# Altium integrated library Resistors.IntLib: 4954 symbols (part 23 of 32)
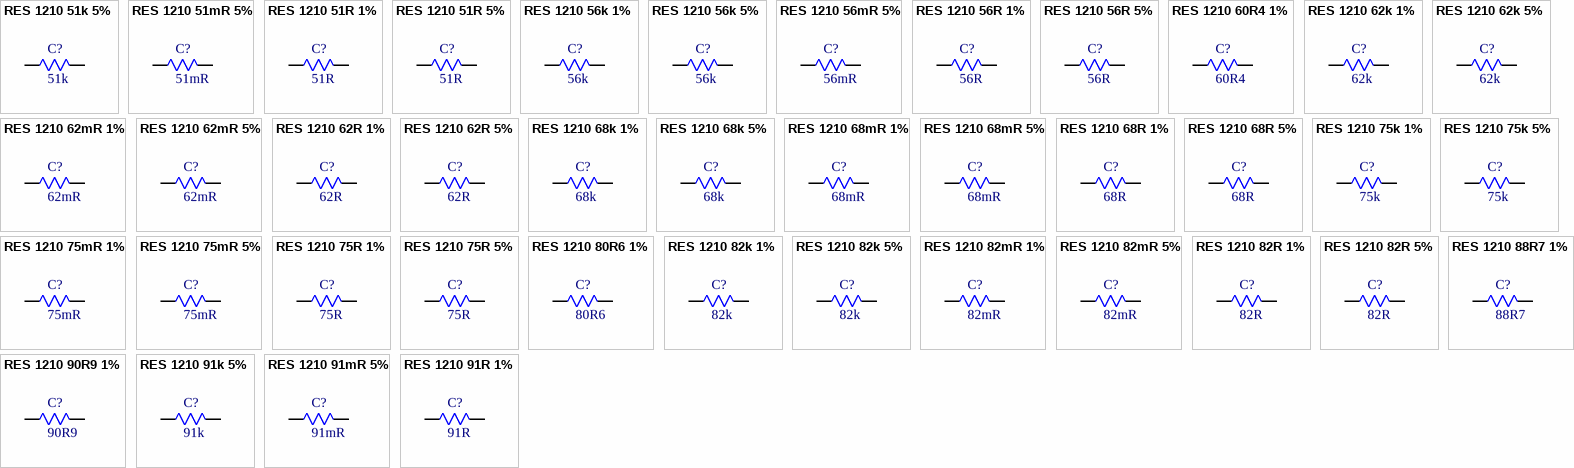
[diagram p145: symbols RES 1210 51k 5% to RES 1210 91R 1%]

## RES 1210 91mR 5%
designator C?, comment 91mR
91mR 5% 500mW 1210 Thick Film Resistor; Manufacturer: FOJAN; Manufacturer Part Number: FRL1210JR091TS; Voltage Rating: 500V; Supplier: LCSC; Supplier Part Number: C3013359; Resistance: 91mR; Tolerance: 5%; Power: 500mW
footprint RES SMD 1210
pins: 1, 2

## RES 1210 91R 1%
designator C?, comment 91R
500mW 91R 200V Thick Film Resistor 1% 100ppm/â„ƒ 1210 Chip Resistor - Surface Mount RoHS; Manufacturer: FOJAN; Manufacturer Part Number: FRC1210F91R0TS; Supplier: LCSC; Supplier Part Number: C7467474; Resistance: 91R; Tolerance: 1%; Voltage Rating: 200V; Power: 500mW
footprint RES SMD 1210
pins: 1, 2

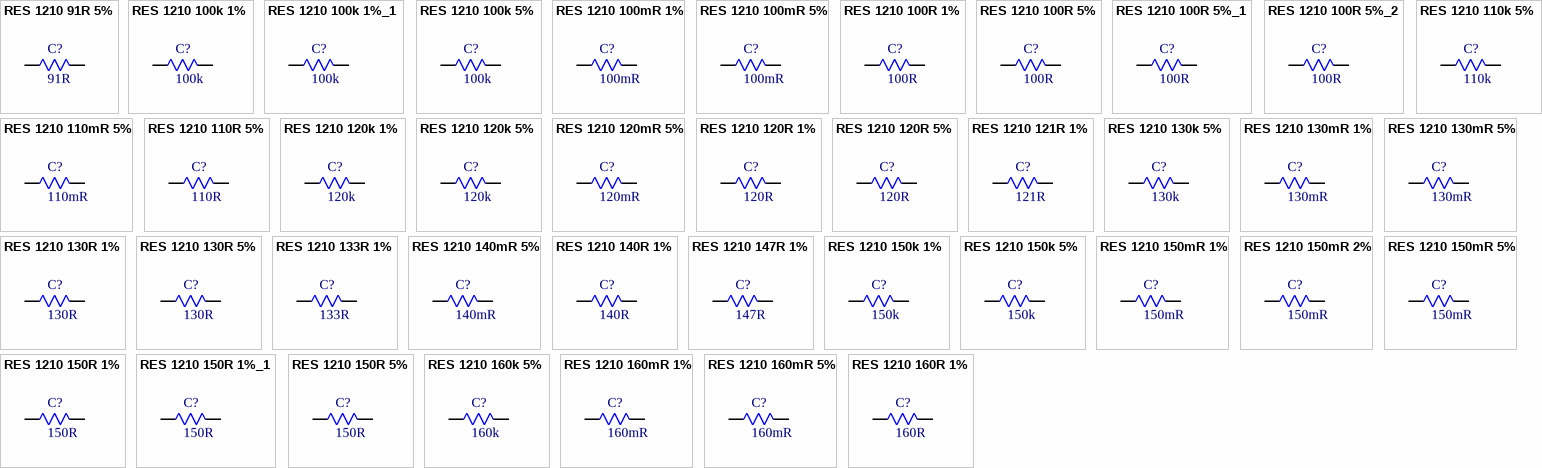
[diagram p88: symbols RES 1210 91R 5% to RES 1210 160R 1%]

## RES 1210 91R 5%
designator C?, comment 91R
91R 5% 500mW 1210 Thick Film Resistor; Manufacturer: FOJAN; Manufacturer Part Number: FRC1210J910TS; Voltage Rating: 200V; Supplier: LCSC; Supplier Part Number: C3000567; Resistance: 91R; Tolerance: 5%; Power: 500mW
footprint RES SMD 1210
pins: 1, 2

## RES 1210 100k 1%
designator C?, comment 100k
100kR 1% 500mW 1210 Thick Film Resistor; Manufacturer: FOJAN; Manufacturer Part Number: FRC1210F1003TS; Voltage Rating: 200V; Supplier: LCSC; Supplier Part Number: C2933800; Resistance: 100k; Tolerance: 1%; Power: 500mW
footprint RES SMD 1210
pins: 1, 2

## RES 1210 100k 1%_1
designator C?, comment 100k
500mW 100kR 200V Thick Film Resistor 100ppm/â„ƒ 1% 1210 Chip Resistor - Surface Mount RoHS; Manufacturer: FOJAN; Manufacturer Part Number: FRR1210F1003TS; Supplier: LCSC; Supplier Part Number: C49196856; Resistance: 100k; Tolerance: 1%; Voltage Rating: 200V; Power: 500mW
footprint RES SMD 1210
pins: 1, 2

## RES 1210 100k 5%
designator C?, comment 100k
100kR 5% 500mW 1210 Thick Film Resistor; Manufacturer: FOJAN; Manufacturer Part Number: FRC1210J104 TS; Voltage Rating: 200V; Supplier: LCSC; Supplier Part Number: C2933828; Resistance: 100k; Tolerance: 5%; Power: 500mW
footprint RES SMD 1210
pins: 1, 2

## RES 1210 100mR 1%
designator C?, comment 100mR
100mR 1% 500mW 1210 Thick Film Resistor; Manufacturer: FOJAN; Manufacturer Part Number: FRL1210FR100TS; Voltage Rating: 500V; Supplier: LCSC; Supplier Part Number: C2974119; Resistance: 100mR; Tolerance: 1%; Power: 500mW
footprint RES SMD 1210
pins: 1, 2

## RES 1210 100mR 5%
designator C?, comment 100mR
100mR 5% 500mW 1210 Thick Film Resistor; Manufacturer: FOJAN; Manufacturer Part Number: FRL1210JR100TS; Voltage Rating: 500V; Supplier: LCSC; Supplier Part Number: C2960697; Resistance: 100mR; Tolerance: 5%; Power: 500mW
footprint RES SMD 1210
pins: 1, 2

## RES 1210 100R 1%
designator C?, comment 100R
100R 1% 500mW 1210 Thick Film Resistor; Manufacturer: FOJAN; Manufacturer Part Number: FRC1210F1000TS; Voltage Rating: 200V; Supplier: LCSC; Supplier Part Number: C2933799; Resistance: 100R; Tolerance: 1%; Power: 500mW
footprint RES SMD 1210
pins: 1, 2

## RES 1210 100R 5%
designator C?, comment 100R
100R 5% 500mW 1210 Thick Film Resistor; Manufacturer: FOJAN; Manufacturer Part Number: FRC1210J101 TS; Voltage Rating: 200V; Supplier: LCSC; Supplier Part Number: C2933827; Resistance: 100R; Tolerance: 5%; Power: 500mW
footprint RES SMD 1210
pins: 1, 2

## RES 1210 100R 5%_1
designator C?, comment 100R
750mW 100R Thick Film Resistor 200ppm/â„ƒ 5% 1210 Chip Resistor - Surface Mount RoHS; Manufacturer: FOJAN; Manufacturer Part Number: FPS1210J101 TS; Supplier: LCSC; Supplier Part Number: C3013391; Resistance: 100R; Tolerance: 5%; Power: 750mW
footprint RES SMD 1210
pins: 1, 2

## RES 1210 100R 5%_2
designator C?, comment 100R
500mW 100R 200V Thick Film Resistor 5% 100ppm/â„ƒ 1210 Chip Resistor - Surface Mount RoHS; Manufacturer: FOJAN; Manufacturer Part Number: FRQ1210J101 TS; Supplier: LCSC; Supplier Part Number: C7471237; Resistance: 100R; Tolerance: 5%; Voltage Rating: 200V; Power: 500mW
footprint RES SMD 1210
pins: 1, 2

## RES 1210 110k 5%
designator C?, comment 110k
110kR 5% 500mW 1210 Thick Film Resistor; Manufacturer: FOJAN; Manufacturer Part Number: FRC1210J114 TS; Voltage Rating: 200V; Supplier: LCSC; Supplier Part Number: C2933832; Resistance: 110k; Tolerance: 5%; Power: 500mW
footprint RES SMD 1210
pins: 1, 2

## RES 1210 110mR 5%
designator C?, comment 110mR
110mR 5% 500mW 1210 Thick Film Resistor; Manufacturer: FOJAN; Manufacturer Part Number: FRL1210JR110TS; Voltage Rating: 500V; Supplier: LCSC; Supplier Part Number: C3000678; Resistance: 110mR; Tolerance: 5%; Power: 500mW
footprint RES SMD 1210
pins: 1, 2

## RES 1210 110R 5%
designator C?, comment 110R
110R 5% 500mW 1210 Thick Film Resistor; Manufacturer: FOJAN; Manufacturer Part Number: FRC1210J111 TS; Voltage Rating: 200V; Supplier: LCSC; Supplier Part Number: C2933830; Resistance: 110R; Tolerance: 5%; Power: 500mW
footprint RES SMD 1210
pins: 1, 2

## RES 1210 120k 1%
designator C?, comment 120k
120kR 1% 500mW 1210 Thick Film Resistor; Manufacturer: FOJAN; Manufacturer Part Number: FRC1210F1203TS; Voltage Rating: 200V; Supplier: LCSC; Supplier Part Number: C5126234; Resistance: 120k; Tolerance: 1%; Power: 500mW
footprint RES SMD 1210
pins: 1, 2

## RES 1210 120k 5%
designator C?, comment 120k
120kR 5% 500mW 1210 Thick Film Resistor; Manufacturer: FOJAN; Manufacturer Part Number: FRC1210J124TS; Voltage Rating: 200V; Supplier: LCSC; Supplier Part Number: C3000702; Resistance: 120k; Tolerance: 5%; Power: 500mW
footprint RES SMD 1210
pins: 1, 2

## RES 1210 120mR 5%
designator C?, comment 120mR
120mR 5% 500mW 1210 Thick Film Resistor; Manufacturer: FOJAN; Manufacturer Part Number: FRL1210JR120TS; Voltage Rating: 500V; Supplier: LCSC; Supplier Part Number: C2934323; Resistance: 120mR; Tolerance: 5%; Power: 500mW
footprint RES SMD 1210
pins: 1, 2

## RES 1210 120R 1%
designator C?, comment 120R
120R 1% 500mW 1210 Thick Film Resistor; Manufacturer: FOJAN; Manufacturer Part Number: FRC1210F1200TS; Voltage Rating: 200V; Supplier: LCSC; Supplier Part Number: C2974062; Resistance: 120R; Tolerance: 1%; Power: 500mW
footprint RES SMD 1210
pins: 1, 2

## RES 1210 120R 5%
designator C?, comment 120R
120R 5% 500mW 1210 Thick Film Resistor; Manufacturer: FOJAN; Manufacturer Part Number: FRC1210J121 TS; Voltage Rating: 200V; Supplier: LCSC; Supplier Part Number: C2933833; Resistance: 120R; Tolerance: 5%; Power: 500mW
footprint RES SMD 1210
pins: 1, 2

## RES 1210 121R 1%
designator C?, comment 121R
500mW 121R 200V Thick Film Resistor 100ppm/â„ƒ 1% 1210 Chip Resistor - Surface Mount RoHS; Manufacturer: FOJAN; Manufacturer Part Number: FRC1210F1210TS; Supplier: LCSC; Supplier Part Number: C48533789; Resistance: 121R; Tolerance: 1%; Voltage Rating: 200V; Power: 500mW
footprint RES SMD 1210
pins: 1, 2

## RES 1210 130k 5%
designator C?, comment 130k
130kR 5% 500mW 1210 Thick Film Resistor; Manufacturer: FOJAN; Manufacturer Part Number: FRC1210J134TS; Voltage Rating: 200V; Supplier: LCSC; Supplier Part Number: C3000633; Resistance: 130k; Tolerance: 5%; Power: 500mW
footprint RES SMD 1210
pins: 1, 2

## RES 1210 130mR 1%
designator C?, comment 130mR
130mR 1% 500mW 1210 Thick Film Resistor; Manufacturer: FOJAN; Manufacturer Part Number: FRL1210FR130TS; Voltage Rating: 500V; Supplier: LCSC; Supplier Part Number: C2999577; Resistance: 130mR; Tolerance: 1%; Power: 500mW
footprint RES SMD 1210
pins: 1, 2

## RES 1210 130mR 5%
designator C?, comment 130mR
130mR 5% 500mW 1210 Thick Film Resistor; Manufacturer: FOJAN; Manufacturer Part Number: FRL1210JR130TS; Voltage Rating: 500V; Supplier: LCSC; Supplier Part Number: C2934324; Resistance: 130mR; Tolerance: 5%; Power: 500mW
footprint RES SMD 1210
pins: 1, 2

## RES 1210 130R 1%
designator C?, comment 130R
130R 1% 1210 Chip Resistor - Surface Mount RoHS; Manufacturer: FOJAN; Manufacturer Part Number: FRC1210F1300TS; Supplier: LCSC; Supplier Part Number: C19268618; Resistance: 130R; Tolerance: 1%
footprint RES SMD 1210
pins: 1, 2

## RES 1210 130R 5%
designator C?, comment 130R
130R 5% 500mW 1210 Thick Film Resistor; Manufacturer: FOJAN; Manufacturer Part Number: FRC1210J131 TS; Voltage Rating: 200V; Supplier: LCSC; Supplier Part Number: C2933835; Resistance: 130R; Tolerance: 5%; Power: 500mW
footprint RES SMD 1210
pins: 1, 2

## RES 1210 133R 1%
designator C?, comment 133R
133R 500mW 200V Thick Film Resistor 100ppm/â„ƒ 1% 1210 Chip Resistor - Surface Mount RoHS; Manufacturer: FOJAN; Manufacturer Part Number: FRC1210F1330TS; Supplier: LCSC; Supplier Part Number: C48533799; Resistance: 133R; Tolerance: 1%; Voltage Rating: 200V; Power: 500mW
footprint RES SMD 1210
pins: 1, 2

## RES 1210 140mR 5%
designator C?, comment 140mR
140mR 5% 500mW 1210 Thick Film Resistor; Manufacturer: FOJAN; Manufacturer Part Number: FRL1210JR140TS; Voltage Rating: 500V; Supplier: LCSC; Supplier Part Number: C5713400; Resistance: 140mR; Tolerance: 5%; Power: 500mW
footprint RES SMD 1210
pins: 1, 2

## RES 1210 140R 1%
designator C?, comment 140R
140R 1% 500mW 1210 Thick Film Resistor; Manufacturer: FOJAN; Manufacturer Part Number: FRC1210F1400TS; Voltage Rating: 200V; Supplier: LCSC; Supplier Part Number: C2933804; Resistance: 140R; Tolerance: 1%; Power: 500mW
footprint RES SMD 1210
pins: 1, 2

## RES 1210 147R 1%
designator C?, comment 147R
500mW 147R 200V Thick Film Resistor 100ppm/â„ƒ 1% 1210 Chip Resistor - Surface Mount RoHS; Manufacturer: FOJAN; Manufacturer Part Number: FRC1210F1470TS; Supplier: LCSC; Supplier Part Number: C49010132; Resistance: 147R; Tolerance: 1%; Voltage Rating: 200V; Power: 500mW
footprint RES SMD 1210
pins: 1, 2

## RES 1210 150k 1%
designator C?, comment 150k
150kR 1% 500mW 1210 Thick Film Resistor; Manufacturer: FOJAN; Manufacturer Part Number: FRC1210F1503TS; Voltage Rating: 200V; Supplier: LCSC; Supplier Part Number: C5713334; Resistance: 150k; Tolerance: 1%; Power: 500mW
footprint RES SMD 1210
pins: 1, 2

## RES 1210 150k 5%
designator C?, comment 150k
150kR 5% 500mW 1210 Thick Film Resistor; Manufacturer: FOJAN; Manufacturer Part Number: FRC1210J154TS; Voltage Rating: 200V; Supplier: LCSC; Supplier Part Number: C3000689; Resistance: 150k; Tolerance: 5%; Power: 500mW
footprint RES SMD 1210
pins: 1, 2

## RES 1210 150mR 1%
designator C?, comment 150mR
150mR 1% 500mW 1210 Thick Film Resistor; Manufacturer: FOJAN; Manufacturer Part Number: FRL1210FR150TS; Voltage Rating: 500V; Supplier: LCSC; Supplier Part Number: C2934310; Resistance: 150mR; Tolerance: 1%; Power: 500mW
footprint RES SMD 1210
pins: 1, 2

## RES 1210 150mR 2%
designator C?, comment 150mR
500mW 150mR Thick Film Resistor 600ppm/â„ƒ 2% 1210 Chip Resistor - Surface Mount RoHS; Manufacturer: FOJAN; Manufacturer Part Number: FRL1210GR150TS; Supplier: LCSC; Supplier Part Number: C7467356; Resistance: 150mR; Tolerance: 2%; Power: 500mW
footprint RES SMD 1210
pins: 1, 2

## RES 1210 150mR 5%
designator C?, comment 150mR
150mR 5% 500mW 1210 Thick Film Resistor; Manufacturer: FOJAN; Manufacturer Part Number: FRL1210JR150TS; Voltage Rating: 500V; Supplier: LCSC; Supplier Part Number: C2934325; Resistance: 150mR; Tolerance: 5%; Power: 500mW
footprint RES SMD 1210
pins: 1, 2

## RES 1210 150R 1%
designator C?, comment 150R
150R 1% 500mW 1210 Thick Film Resistor; Manufacturer: FOJAN; Manufacturer Part Number: FRC1210F1500TS; Voltage Rating: 200V; Supplier: LCSC; Supplier Part Number: C2933805; Resistance: 150R; Tolerance: 1%; Power: 500mW
footprint RES SMD 1210
pins: 1, 2

## RES 1210 150R 1%_1
designator C?, comment 150R
500mW 150R 200V Thick Film Resistor 100ppm/â„ƒ 1% 1210 Chip Resistor - Surface Mount RoHS; Manufacturer: FOJAN; Manufacturer Part Number: FRQ1210F1500TS; Supplier: LCSC; Supplier Part Number: C5126153; Resistance: 150R; Tolerance: 1%; Voltage Rating: 200V; Power: 500mW
footprint RES SMD 1210
pins: 1, 2

## RES 1210 150R 5%
designator C?, comment 150R
150R 5% 500mW 1210 Thick Film Resistor; Manufacturer: FOJAN; Manufacturer Part Number: FRC1210J151TS; Voltage Rating: 200V; Supplier: LCSC; Supplier Part Number: C3000604; Resistance: 150R; Tolerance: 5%; Power: 500mW
footprint RES SMD 1210
pins: 1, 2

## RES 1210 160k 5%
designator C?, comment 160k
160kR 5% 500mW 1210 Thick Film Resistor; Manufacturer: FOJAN; Manufacturer Part Number: FRC1210J164 TS; Voltage Rating: 200V; Supplier: LCSC; Supplier Part Number: C2960670; Resistance: 160k; Tolerance: 5%; Power: 500mW
footprint RES SMD 1210
pins: 1, 2

## RES 1210 160mR 1%
designator C?, comment 160mR
160mR 1% 500mW 1210 Thick Film Resistor; Manufacturer: FOJAN; Manufacturer Part Number: FRL1210FR160TS; Voltage Rating: 500V; Supplier: LCSC; Supplier Part Number: C2934311; Resistance: 160mR; Tolerance: 1%; Power: 500mW
footprint RES SMD 1210
pins: 1, 2

## RES 1210 160mR 5%
designator C?, comment 160mR
160mR 5% 500mW 1210 Thick Film Resistor; Manufacturer: FOJAN; Manufacturer Part Number: FRL1210JR160TS; Voltage Rating: 500V; Supplier: LCSC; Supplier Part Number: C2934326; Resistance: 160mR; Tolerance: 5%; Power: 500mW
footprint RES SMD 1210
pins: 1, 2

## RES 1210 160R 1%
designator C?, comment 160R
160R 1% 500mW 1210 Thick Film Resistor; Manufacturer: FOJAN; Manufacturer Part Number: FRC1210F1600TS; Voltage Rating: 200V; Supplier: LCSC; Supplier Part Number: C5159741; Resistance: 160R; Tolerance: 1%; Power: 500mW
footprint RES SMD 1210
pins: 1, 2

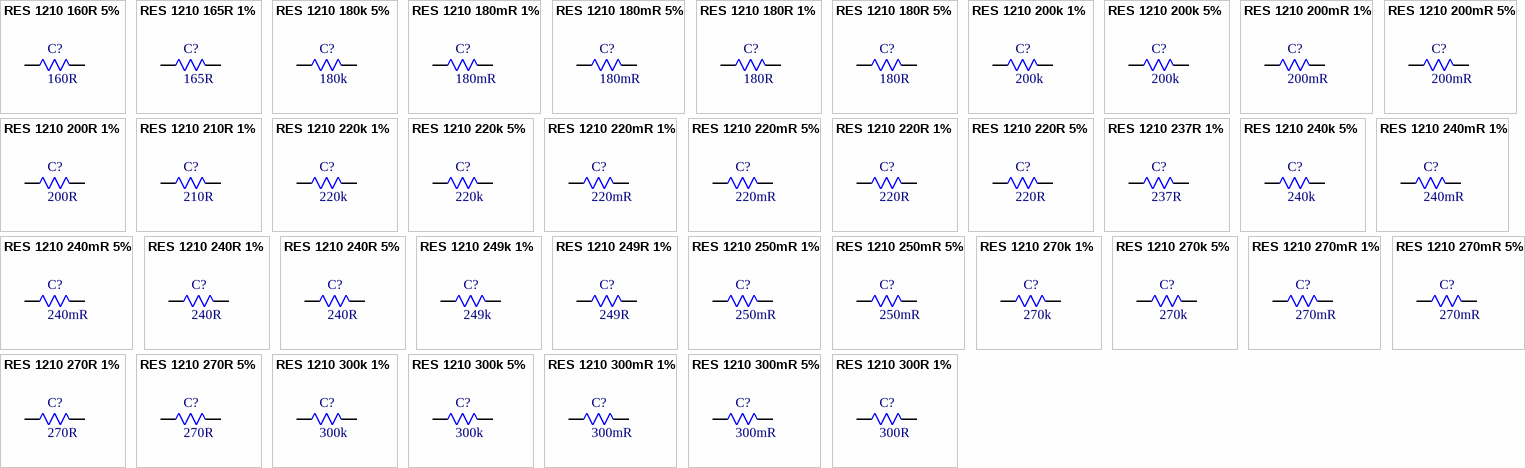
[diagram p89: symbols RES 1210 160R 5% to RES 1210 300R 1%]

## RES 1210 160R 5%
designator C?, comment 160R
160R 5% 500mW 1210 Thick Film Resistor; Manufacturer: FOJAN; Manufacturer Part Number: FRC1210J161 TS; Voltage Rating: 200V; Supplier: LCSC; Supplier Part Number: C2933838; Resistance: 160R; Tolerance: 5%; Power: 500mW
footprint RES SMD 1210
pins: 1, 2

## RES 1210 165R 1%
designator C?, comment 165R
165R 500mW 200V Thick Film Resistor 1% 1210 Chip Resistor - Surface Mount RoHS; Manufacturer: FOJAN; Manufacturer Part Number: FRC1210F1650TS; Supplier: LCSC; Supplier Part Number: C51048206; Resistance: 165R; Tolerance: 1%; Voltage Rating: 200V; Power: 500mW
footprint RES SMD 1210
pins: 1, 2

## RES 1210 180k 5%
designator C?, comment 180k
180kR 5% 500mW 1210 Thick Film Resistor; Manufacturer: FOJAN; Manufacturer Part Number: FRC1210J184 TS; Voltage Rating: 200V; Supplier: LCSC; Supplier Part Number: C2960705; Resistance: 180k; Tolerance: 5%; Power: 500mW
footprint RES SMD 1210
pins: 1, 2

## RES 1210 180mR 1%
designator C?, comment 180mR
500mW 180mR Thick Film Resistor 600ppm/â„ƒ 1% 1210 Chip Resistor - Surface Mount RoHS; Manufacturer: FOJAN; Manufacturer Part Number: FRL1210FR180TS; Supplier: LCSC; Supplier Part Number: C7467447; Resistance: 180mR; Tolerance: 1%; Power: 500mW
footprint RES SMD 1210
pins: 1, 2

## RES 1210 180mR 5%
designator C?, comment 180mR
180mR 5% 500mW 1210 Thick Film Resistor; Manufacturer: FOJAN; Manufacturer Part Number: FRL1210JR180TS; Voltage Rating: 500V; Supplier: LCSC; Supplier Part Number: C5126018; Resistance: 180mR; Tolerance: 5%; Power: 500mW
footprint RES SMD 1210
pins: 1, 2

## RES 1210 180R 1%
designator C?, comment 180R
180R 1% 500mW 1210 Thick Film Resistor; Manufacturer: FOJAN; Manufacturer Part Number: FRC1210F1800TS; Voltage Rating: 200V; Supplier: LCSC; Supplier Part Number: C2933806; Resistance: 180R; Tolerance: 1%; Power: 500mW
footprint RES SMD 1210
pins: 1, 2

## RES 1210 180R 5%
designator C?, comment 180R
180R 5% 500mW 1210 Thick Film Resistor; Manufacturer: FOJAN; Manufacturer Part Number: FRC1210J181 TS; Voltage Rating: 200V; Supplier: LCSC; Supplier Part Number: C2974067; Resistance: 180R; Tolerance: 5%; Power: 500mW
footprint RES SMD 1210
pins: 1, 2

## RES 1210 200k 1%
designator C?, comment 200k
200kR 1% 500mW 1210 Thick Film Resistor; Manufacturer: FOJAN; Manufacturer Part Number: FRC1210F2003TS; Voltage Rating: 200V; Supplier: LCSC; Supplier Part Number: C2933812; Resistance: 200k; Tolerance: 1%; Power: 500mW
footprint RES SMD 1210
pins: 1, 2

## RES 1210 200k 5%
designator C?, comment 200k
200kR 5% 500mW 1210 Thick Film Resistor; Manufacturer: FOJAN; Manufacturer Part Number: FRC1210J204 TS; Voltage Rating: 200V; Supplier: LCSC; Supplier Part Number: C2933845; Resistance: 200k; Tolerance: 5%; Power: 500mW
footprint RES SMD 1210
pins: 1, 2

## RES 1210 200mR 1%
designator C?, comment 200mR
200mR 1% 500mW 1210 Thick Film Resistor; Manufacturer: FOJAN; Manufacturer Part Number: FRL1210FR200TS; Voltage Rating: 500V; Supplier: LCSC; Supplier Part Number: C2934312; Resistance: 200mR; Tolerance: 1%; Power: 500mW
footprint RES SMD 1210
pins: 1, 2

## RES 1210 200mR 5%
designator C?, comment 200mR
200mR 5% 500mW 1210 Thick Film Resistor; Manufacturer: FOJAN; Manufacturer Part Number: FRL1210JR200TS; Voltage Rating: 500V; Supplier: LCSC; Supplier Part Number: C3013360; Resistance: 200mR; Tolerance: 5%; Power: 500mW
footprint RES SMD 1210
pins: 1, 2

## RES 1210 200R 1%
designator C?, comment 200R
200R 1% 500mW 1210 Thick Film Resistor; Manufacturer: FOJAN; Manufacturer Part Number: FRC1210F2000TS; Voltage Rating: 200V; Supplier: LCSC; Supplier Part Number: C2933811; Resistance: 200R; Tolerance: 1%; Power: 500mW
footprint RES SMD 1210
pins: 1, 2

## RES 1210 210R 1%
designator C?, comment 210R
210R 500mW 200V Thick Film Resistor 1% 1210 Chip Resistor - Surface Mount RoHS; Manufacturer: FOJAN; Manufacturer Part Number: FRC1210F2100TS; Supplier: LCSC; Supplier Part Number: C51048192; Resistance: 210R; Tolerance: 1%; Voltage Rating: 200V; Power: 500mW
footprint RES SMD 1210
pins: 1, 2

## RES 1210 220k 1%
designator C?, comment 220k
220kR 1% 500mW 1210 Thick Film Resistor; Manufacturer: FOJAN; Manufacturer Part Number: FRC1210F2203TS; Voltage Rating: 200V; Supplier: LCSC; Supplier Part Number: C5204026; Resistance: 220k; Tolerance: 1%; Power: 500mW
footprint RES SMD 1210
pins: 1, 2

## RES 1210 220k 5%
designator C?, comment 220k
220kR 5% 500mW 1210 Thick Film Resistor; Manufacturer: FOJAN; Manufacturer Part Number: FRC1210J224 TS; Voltage Rating: 200V; Supplier: LCSC; Supplier Part Number: C2960888; Resistance: 220k; Tolerance: 5%; Power: 500mW
footprint RES SMD 1210
pins: 1, 2

## RES 1210 220mR 1%
designator C?, comment 220mR
220mR 1% 500mW 1210 Thick Film Resistor; Manufacturer: FOJAN; Manufacturer Part Number: FRL1210FR220TS; Voltage Rating: 500V; Supplier: LCSC; Supplier Part Number: C2934313; Resistance: 220mR; Tolerance: 1%; Power: 500mW
footprint RES SMD 1210
pins: 1, 2

## RES 1210 220mR 5%
designator C?, comment 220mR
220mR 5% 500mW 1210 Thick Film Resistor; Manufacturer: FOJAN; Manufacturer Part Number: FRL1210JR220TS; Voltage Rating: 500V; Supplier: LCSC; Supplier Part Number: C2930450; Resistance: 220mR; Tolerance: 5%; Power: 500mW
footprint RES SMD 1210
pins: 1, 2

## RES 1210 220R 1%
designator C?, comment 220R
220R 1% 500mW 1210 Thick Film Resistor; Manufacturer: FOJAN; Manufacturer Part Number: FRC1210F2200TS; Voltage Rating: 200V; Supplier: LCSC; Supplier Part Number: C3000591; Resistance: 220R; Tolerance: 1%; Power: 500mW
footprint RES SMD 1210
pins: 1, 2

## RES 1210 220R 5%
designator C?, comment 220R
220R 5% 500mW 1210 Thick Film Resistor; Manufacturer: FOJAN; Manufacturer Part Number: FRC1210J221 TS; Voltage Rating: 200V; Supplier: LCSC; Supplier Part Number: C3013286; Resistance: 220R; Tolerance: 5%; Power: 500mW
footprint RES SMD 1210
pins: 1, 2

## RES 1210 237R 1%
designator C?, comment 237R
237R 1% 500mW 1210 Thick Film Resistor; Manufacturer: FOJAN; Manufacturer Part Number: FRC1210F2370TS; Voltage Rating: 200V; Supplier: LCSC; Supplier Part Number: C22375094; Resistance: 237R; Tolerance: 1%; Power: 500mW
footprint RES SMD 1210
pins: 1, 2

## RES 1210 240k 5%
designator C?, comment 240k
240kR 5% 500mW 1210 Thick Film Resistor; Manufacturer: FOJAN; Manufacturer Part Number: FRC1210J244 TS; Voltage Rating: 200V; Supplier: LCSC; Supplier Part Number: C2933854; Resistance: 240k; Tolerance: 5%; Power: 500mW
footprint RES SMD 1210
pins: 1, 2

## RES 1210 240mR 1%
designator C?, comment 240mR
240mR 1% 500mW 1210 Thick Film Resistor; Manufacturer: FOJAN; Manufacturer Part Number: FRL1210FR240TS; Voltage Rating: 500V; Supplier: LCSC; Supplier Part Number: C5159745; Resistance: 240mR; Tolerance: 1%; Power: 500mW
footprint RES SMD 1210
pins: 1, 2

## RES 1210 240mR 5%
designator C?, comment 240mR
240mR 5% 500mW 1210 Thick Film Resistor; Manufacturer: FOJAN; Manufacturer Part Number: FRL1210JR240TS; Voltage Rating: 500V; Supplier: LCSC; Supplier Part Number: C3000781; Resistance: 240mR; Tolerance: 5%; Power: 500mW
footprint RES SMD 1210
pins: 1, 2

## RES 1210 240R 1%
designator C?, comment 240R
240R 1% 500mW 1210 Thick Film Resistor; Manufacturer: FOJAN; Manufacturer Part Number: FRC1210F2400TS; Voltage Rating: 200V; Supplier: LCSC; Supplier Part Number: C5153999; Resistance: 240R; Tolerance: 1%; Power: 500mW
footprint RES SMD 1210
pins: 1, 2

## RES 1210 240R 5%
designator C?, comment 240R
240R 5% 500mW 1210 Thick Film Resistor; Manufacturer: FOJAN; Manufacturer Part Number: FRC1210J241 TS; Voltage Rating: 200V; Supplier: LCSC; Supplier Part Number: C2933851; Resistance: 240R; Tolerance: 5%; Power: 500mW
footprint RES SMD 1210
pins: 1, 2

## RES 1210 249k 1%
designator C?, comment 249k
249kR 1% 500mW 1210 Thick Film Resistor; Manufacturer: FOJAN; Manufacturer Part Number: FRC1210F2493TS; Voltage Rating: 200V; Supplier: LCSC; Supplier Part Number: C5121551; Resistance: 249k; Tolerance: 1%; Power: 500mW
footprint RES SMD 1210
pins: 1, 2

## RES 1210 249R 1%
designator C?, comment 249R
249R 1% 500mW 1210 Thick Film Resistor; Manufacturer: FOJAN; Manufacturer Part Number: FRC1210F2490TS; Voltage Rating: 200V; Supplier: LCSC; Supplier Part Number: C3000542; Resistance: 249R; Tolerance: 1%; Power: 500mW
footprint RES SMD 1210
pins: 1, 2

## RES 1210 250mR 1%
designator C?, comment 250mR
250mR 1% 500mW 1210 Thick Film Resistor; Manufacturer: FOJAN; Manufacturer Part Number: FRL1210FR250TS; Voltage Rating: 500V; Supplier: LCSC; Supplier Part Number: C2934314; Resistance: 250mR; Tolerance: 1%; Power: 500mW
footprint RES SMD 1210
pins: 1, 2

## RES 1210 250mR 5%
designator C?, comment 250mR
250mR 5% 500mW 1210 Thick Film Resistor; Manufacturer: FOJAN; Manufacturer Part Number: FRL1210JR250TS; Voltage Rating: 500V; Supplier: LCSC; Supplier Part Number: C2934327; Resistance: 250mR; Tolerance: 5%; Power: 500mW
footprint RES SMD 1210
pins: 1, 2

## RES 1210 270k 1%
designator C?, comment 270k
270kR 1% 500mW 1210 Thick Film Resistor; Manufacturer: FOJAN; Manufacturer Part Number: FRC1210F2703TS; Voltage Rating: 200V; Supplier: LCSC; Supplier Part Number: C5126070; Resistance: 270k; Tolerance: 1%; Power: 500mW
footprint RES SMD 1210
pins: 1, 2

## RES 1210 270k 5%
designator C?, comment 270k
270kR 5% 500mW 1210 Thick Film Resistor; Manufacturer: FOJAN; Manufacturer Part Number: FRC1210J274 TS; Voltage Rating: 200V; Supplier: LCSC; Supplier Part Number: C2974070; Resistance: 270k; Tolerance: 5%; Power: 500mW
footprint RES SMD 1210
pins: 1, 2

## RES 1210 270mR 1%
designator C?, comment 270mR
270mR 1% 500mW 1210 Thick Film Resistor; Manufacturer: FOJAN; Manufacturer Part Number: FRL1210FR270TS; Voltage Rating: 500V; Supplier: LCSC; Supplier Part Number: C2974120; Resistance: 270mR; Tolerance: 1%; Power: 500mW
footprint RES SMD 1210
pins: 1, 2

## RES 1210 270mR 5%
designator C?, comment 270mR
270mR 5% 500mW 1210 Thick Film Resistor; Manufacturer: FOJAN; Manufacturer Part Number: FRL1210JR270TS; Voltage Rating: 500V; Supplier: LCSC; Supplier Part Number: C2934328; Resistance: 270mR; Tolerance: 5%; Power: 500mW
footprint RES SMD 1210
pins: 1, 2

## RES 1210 270R 1%
designator C?, comment 270R
270R 1% 500mW 1210 Thick Film Resistor; Manufacturer: FOJAN; Manufacturer Part Number: FRC1210F2700TS; Voltage Rating: 200V; Supplier: LCSC; Supplier Part Number: C2933816; Resistance: 270R; Tolerance: 1%; Power: 500mW
footprint RES SMD 1210
pins: 1, 2

## RES 1210 270R 5%
designator C?, comment 270R
270R 5% 500mW 1210 Thick Film Resistor; Manufacturer: FOJAN; Manufacturer Part Number: FRC1210J271 TS; Voltage Rating: 200V; Supplier: LCSC; Supplier Part Number: C2933855; Resistance: 270R; Tolerance: 5%; Power: 500mW
footprint RES SMD 1210
pins: 1, 2

## RES 1210 300k 1%
designator C?, comment 300k
300kR 1% 500mW 1210 Thick Film Resistor; Manufacturer: FOJAN; Manufacturer Part Number: FRC1210F3003TS; Voltage Rating: 200V; Supplier: LCSC; Supplier Part Number: C2999611; Resistance: 300k; Tolerance: 1%; Power: 500mW
footprint RES SMD 1210
pins: 1, 2

## RES 1210 300k 5%
designator C?, comment 300k
300kR 5% 500mW 1210 Thick Film Resistor; Manufacturer: FOJAN; Manufacturer Part Number: FRC1210J304 TS; Voltage Rating: 200V; Supplier: LCSC; Supplier Part Number: C2933859; Resistance: 300k; Tolerance: 5%; Power: 500mW
footprint RES SMD 1210
pins: 1, 2

## RES 1210 300mR 1%
designator C?, comment 300mR
300mR 1% 500mW 1210 Thick Film Resistor; Manufacturer: FOJAN; Manufacturer Part Number: FRL1210FR300TS; Voltage Rating: 500V; Supplier: LCSC; Supplier Part Number: C2974121; Resistance: 300mR; Tolerance: 1%; Power: 500mW
footprint RES SMD 1210
pins: 1, 2

## RES 1210 300mR 5%
designator C?, comment 300mR
300mR 5% 500mW 1210 Thick Film Resistor; Manufacturer: FOJAN; Manufacturer Part Number: FRL1210JR300TS; Voltage Rating: 500V; Supplier: LCSC; Supplier Part Number: C2934329; Resistance: 300mR; Tolerance: 5%; Power: 500mW
footprint RES SMD 1210
pins: 1, 2

## RES 1210 300R 1%
designator C?, comment 300R
300R 1% 500mW 1210 Thick Film Resistor; Manufacturer: FOJAN; Manufacturer Part Number: FRC1210F3000TS; Voltage Rating: 200V; Supplier: LCSC; Supplier Part Number: C2960903; Resistance: 300R; Tolerance: 1%; Power: 500mW
footprint RES SMD 1210
pins: 1, 2

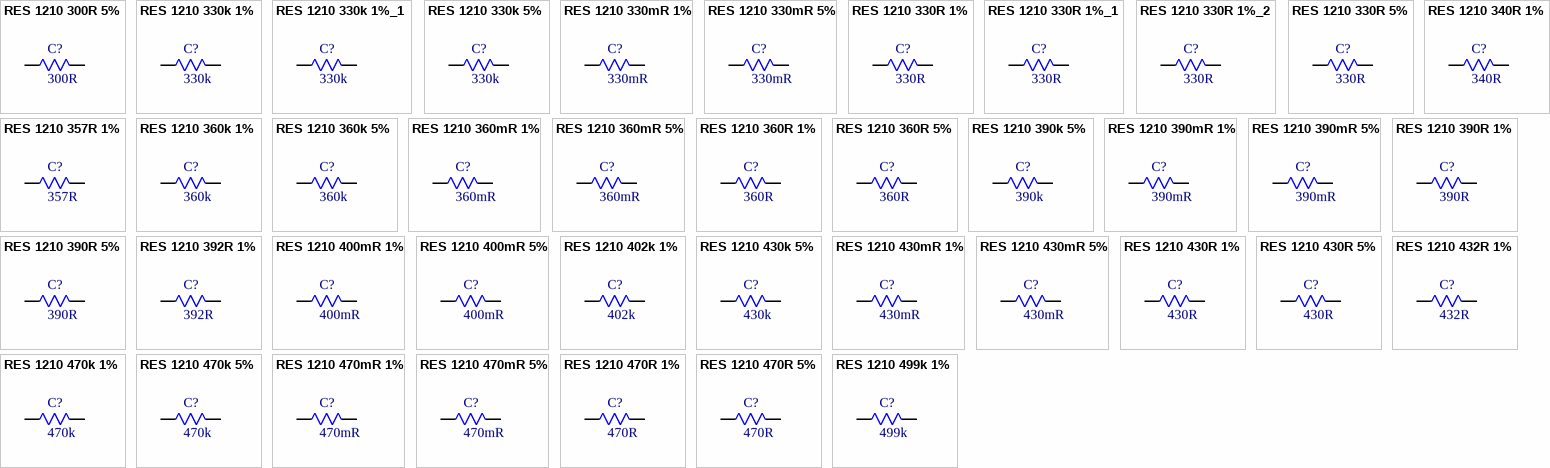
[diagram p90: symbols RES 1210 300R 5% to RES 1210 499k 1%]

## RES 1210 300R 5%
designator C?, comment 300R
300R 5% 500mW 1210 Thick Film Resistor; Manufacturer: FOJAN; Manufacturer Part Number: FRC1210J301 TS; Voltage Rating: 200V; Supplier: LCSC; Supplier Part Number: C2933858; Resistance: 300R; Tolerance: 5%; Power: 500mW
footprint RES SMD 1210
pins: 1, 2

## RES 1210 330k 1%
designator C?, comment 330k
500mW 330kR 200V Thick Film Resistor 100ppm/â„ƒ 1% 1210 Chip Resistor - Surface Mount RoHS; Manufacturer: FOJAN; Manufacturer Part Number: FRR1210F3303TS; Supplier: LCSC; Supplier Part Number: C49196858; Resistance: 330k; Tolerance: 1%; Voltage Rating: 200V; Power: 500mW
footprint RES SMD 1210
pins: 1, 2

## RES 1210 330k 1%_1
designator C?, comment 330k
330kR 500mW 200V Thick Film Resistor 1% 1210 Chip Resistor - Surface Mount RoHS; Manufacturer: FOJAN; Manufacturer Part Number: FRC1210F3303TS; Supplier: LCSC; Supplier Part Number: C51048344; Resistance: 330k; Tolerance: 1%; Voltage Rating: 200V; Power: 500mW
footprint RES SMD 1210
pins: 1, 2

## RES 1210 330k 5%
designator C?, comment 330k
330kR 5% 500mW 1210 Thick Film Resistor; Manufacturer: FOJAN; Manufacturer Part Number: FRC1210J334 TS; Voltage Rating: 200V; Supplier: LCSC; Supplier Part Number: C3013287; Resistance: 330k; Tolerance: 5%; Power: 500mW
footprint RES SMD 1210
pins: 1, 2

## RES 1210 330mR 1%
designator C?, comment 330mR
330mR 1% 500mW 1210 Thick Film Resistor; Manufacturer: FOJAN; Manufacturer Part Number: FRL1210FR330TS; Voltage Rating: 500V; Supplier: LCSC; Supplier Part Number: C2960935; Resistance: 330mR; Tolerance: 1%; Power: 500mW
footprint RES SMD 1210
pins: 1, 2

## RES 1210 330mR 5%
designator C?, comment 330mR
330mR 5% 500mW 1210 Thick Film Resistor; Manufacturer: FOJAN; Manufacturer Part Number: FRL1210JR330TS; Voltage Rating: 500V; Supplier: LCSC; Supplier Part Number: C2934330; Resistance: 330mR; Tolerance: 5%; Power: 500mW
footprint RES SMD 1210
pins: 1, 2

## RES 1210 330R 1%
designator C?, comment 330R
330R 1% 500mW 1210 Thick Film Resistor; Manufacturer: FOJAN; Manufacturer Part Number: FRC1210F3300TS; Voltage Rating: 200V; Supplier: LCSC; Supplier Part Number: C2933817; Resistance: 330R; Tolerance: 1%; Power: 500mW
footprint RES SMD 1210
pins: 1, 2

## RES 1210 330R 1%_1
designator C?, comment 330R
750mW 330R 200V Thick Film Resistor 1% 1210 Chip Resistor - Surface Mount RoHS; Manufacturer: FOJAN; Manufacturer Part Number: FRP1210F3300TS; Supplier: LCSC; Supplier Part Number: C51048356; Resistance: 330R; Tolerance: 1%; Voltage Rating: 200V; Power: 750mW
footprint RES SMD 1210
pins: 1, 2

## RES 1210 330R 1%_2
designator C?, comment 330R
500mW 330R 200V Thick Film Resistor 100ppm/â„ƒ 1% 1210 Chip Resistor - Surface Mount RoHS; Manufacturer: FOJAN; Manufacturer Part Number: FRQ1210F3300TS; Supplier: LCSC; Supplier Part Number: C5126154; Resistance: 330R; Tolerance: 1%; Voltage Rating: 200V; Power: 500mW
footprint RES SMD 1210
pins: 1, 2

## RES 1210 330R 5%
designator C?, comment 330R
330R 5% 500mW 1210 Thick Film Resistor; Manufacturer: FOJAN; Manufacturer Part Number: FRC1210J331TS; Voltage Rating: 200V; Supplier: LCSC; Supplier Part Number: C5154013; Resistance: 330R; Tolerance: 5%; Power: 500mW
footprint RES SMD 1210
pins: 1, 2

## RES 1210 340R 1%
designator C?, comment 340R
500mW 340R 200V Thick Film Resistor 1% 1210 Chip Resistor - Surface Mount RoHS; Manufacturer: FOJAN; Manufacturer Part Number: FRC1210F3400TS; Supplier: LCSC; Supplier Part Number: C52033561; Resistance: 340R; Tolerance: 1%; Voltage Rating: 200V; Power: 500mW
footprint RES SMD 1210
pins: 1, 2

## RES 1210 357R 1%
designator C?, comment 357R
357R 1% 500mW 1210 Thick Film Resistor; Manufacturer: FOJAN; Manufacturer Part Number: FRC1210F3570TS; Voltage Rating: 200V; Supplier: LCSC; Supplier Part Number: C5713338; Resistance: 357R; Tolerance: 1%; Power: 500mW
footprint RES SMD 1210
pins: 1, 2

## RES 1210 360k 1%
designator C?, comment 360k
360kR 500mW 200V Thick Film Resistor 1% 1210 Chip Resistor - Surface Mount RoHS; Manufacturer: FOJAN; Manufacturer Part Number: FRC1210F3603TS; Supplier: LCSC; Supplier Part Number: C51048224; Resistance: 360k; Tolerance: 1%; Voltage Rating: 200V; Power: 500mW
footprint RES SMD 1210
pins: 1, 2

## RES 1210 360k 5%
designator C?, comment 360k
500mW 360kR 200V Thick Film Resistor 100ppm/â„ƒ 5% 1210 Chip Resistor - Surface Mount RoHS; Manufacturer: FOJAN; Manufacturer Part Number: FRC1210J364 TS; Supplier: LCSC; Supplier Part Number: C48533791; Resistance: 360k; Tolerance: 5%; Voltage Rating: 200V; Power: 500mW
footprint RES SMD 1210
pins: 1, 2

## RES 1210 360mR 1%
designator C?, comment 360mR
360mR 1% 500mW 1210 Thick Film Resistor; Manufacturer: FOJAN; Manufacturer Part Number: FRL1210FR360TS; Voltage Rating: 500V; Supplier: LCSC; Supplier Part Number: C2934315; Resistance: 360mR; Tolerance: 1%; Power: 500mW
footprint RES SMD 1210
pins: 1, 2

## RES 1210 360mR 5%
designator C?, comment 360mR
360mR 5% 500mW 1210 Thick Film Resistor; Manufacturer: FOJAN; Manufacturer Part Number: FRL1210JR360TS; Voltage Rating: 500V; Supplier: LCSC; Supplier Part Number: C2934331; Resistance: 360mR; Tolerance: 5%; Power: 500mW
footprint RES SMD 1210
pins: 1, 2

## RES 1210 360R 1%
designator C?, comment 360R
360R 1% 500mW 1210 Thick Film Resistor; Manufacturer: FOJAN; Manufacturer Part Number: FRC1210F3600TS; Voltage Rating: 200V; Supplier: LCSC; Supplier Part Number: C3013278; Resistance: 360R; Tolerance: 1%; Power: 500mW
footprint RES SMD 1210
pins: 1, 2

## RES 1210 360R 5%
designator C?, comment 360R
360R 5% 500mW 1210 Thick Film Resistor; Manufacturer: FOJAN; Manufacturer Part Number: FRC1210J361 TS; Voltage Rating: 200V; Supplier: LCSC; Supplier Part Number: C2907550; Resistance: 360R; Tolerance: 5%; Power: 500mW
footprint RES SMD 1210
pins: 1, 2

## RES 1210 390k 5%
designator C?, comment 390k
390kR 5% 500mW 1210 Thick Film Resistor; Manufacturer: FOJAN; Manufacturer Part Number: FRC1210J394 TS; Voltage Rating: 200V; Supplier: LCSC; Supplier Part Number: C2960765; Resistance: 390k; Tolerance: 5%; Power: 500mW
footprint RES SMD 1210
pins: 1, 2

## RES 1210 390mR 1%
designator C?, comment 390mR
390mR 1% 500mW 1210 Thick Film Resistor; Manufacturer: FOJAN; Manufacturer Part Number: FRL1210FR390TS; Voltage Rating: 500V; Supplier: LCSC; Supplier Part Number: C2934316; Resistance: 390mR; Tolerance: 1%; Power: 500mW
footprint RES SMD 1210
pins: 1, 2

## RES 1210 390mR 5%
designator C?, comment 390mR
390mR 5% 500mW 1210 Thick Film Resistor; Manufacturer: FOJAN; Manufacturer Part Number: FRL1210JR390TS; Voltage Rating: 500V; Supplier: LCSC; Supplier Part Number: C2934332; Resistance: 390mR; Tolerance: 5%; Power: 500mW
footprint RES SMD 1210
pins: 1, 2

## RES 1210 390R 1%
designator C?, comment 390R
390R 1% 500mW 1210 Thick Film Resistor; Manufacturer: FOJAN; Manufacturer Part Number: FRC1210F3900TS; Voltage Rating: 200V; Supplier: LCSC; Supplier Part Number: C5204027; Resistance: 390R; Tolerance: 1%; Power: 500mW
footprint RES SMD 1210
pins: 1, 2

## RES 1210 390R 5%
designator C?, comment 390R
390R 5% 500mW 1210 Thick Film Resistor; Manufacturer: FOJAN; Manufacturer Part Number: FRC1210J391 TS; Voltage Rating: 200V; Supplier: LCSC; Supplier Part Number: C2960731; Resistance: 390R; Tolerance: 5%; Power: 500mW
footprint RES SMD 1210
pins: 1, 2

## RES 1210 392R 1%
designator C?, comment 392R
392R 500mW 200V Thick Film Resistor 1% 1210 Chip Resistor - Surface Mount RoHS; Manufacturer: FOJAN; Manufacturer Part Number: FRC1210F3920TS; Supplier: LCSC; Supplier Part Number: C51048290; Resistance: 392R; Tolerance: 1%; Voltage Rating: 200V; Power: 500mW
footprint RES SMD 1210
pins: 1, 2

## RES 1210 400mR 1%
designator C?, comment 400mR
400mR 1% 500mW 1210 Thick Film Resistor; Manufacturer: FOJAN; Manufacturer Part Number: FRL1210FR400TS; Voltage Rating: 500V; Supplier: LCSC; Supplier Part Number: C5713398; Resistance: 400mR; Tolerance: 1%; Power: 500mW
footprint RES SMD 1210
pins: 1, 2

## RES 1210 400mR 5%
designator C?, comment 400mR
400mR 5% 500mW 1210 Thick Film Resistor; Manufacturer: FOJAN; Manufacturer Part Number: FRL1210JR400TS; Voltage Rating: 500V; Supplier: LCSC; Supplier Part Number: C2934333; Resistance: 400mR; Tolerance: 5%; Power: 500mW
footprint RES SMD 1210
pins: 1, 2

## RES 1210 402k 1%
designator C?, comment 402k
402kR 1% 500mW 1210 Thick Film Resistor; Manufacturer: FOJAN; Manufacturer Part Number: FRC1210F4023TS; Voltage Rating: 200V; Supplier: LCSC; Supplier Part Number: C42372189; Resistance: 402k; Tolerance: 1%; Power: 500mW
footprint RES SMD 1210
pins: 1, 2

## RES 1210 430k 5%
designator C?, comment 430k
500mW 430kR 200V Thick Film Resistor 100ppm/â„ƒ 5% 1210 Chip Resistor - Surface Mount RoHS; Manufacturer: FOJAN; Manufacturer Part Number: FRC1210J434 TS; Supplier: LCSC; Supplier Part Number: C18164306; Resistance: 430k; Tolerance: 5%; Voltage Rating: 200V; Power: 500mW
footprint RES SMD 1210
pins: 1, 2

## RES 1210 430mR 1%
designator C?, comment 430mR
430mR 1% 500mW 1210 Thick Film Resistor; Manufacturer: FOJAN; Manufacturer Part Number: FRL1210FR430TS; Voltage Rating: 500V; Supplier: LCSC; Supplier Part Number: C2934317; Resistance: 430mR; Tolerance: 1%; Power: 500mW
footprint RES SMD 1210
pins: 1, 2

## RES 1210 430mR 5%
designator C?, comment 430mR
430mR 5% 500mW 1210 Thick Film Resistor; Manufacturer: FOJAN; Manufacturer Part Number: FRL1210JR430TS; Voltage Rating: 500V; Supplier: LCSC; Supplier Part Number: C2934334; Resistance: 430mR; Tolerance: 5%; Power: 500mW
footprint RES SMD 1210
pins: 1, 2

## RES 1210 430R 1%
designator C?, comment 430R
430R 1% 500mW 1210 Thick Film Resistor; Manufacturer: FOJAN; Manufacturer Part Number: FRC1210F4300TS; Voltage Rating: 200V; Supplier: LCSC; Supplier Part Number: C3013279; Resistance: 430R; Tolerance: 1%; Power: 500mW
footprint RES SMD 1210
pins: 1, 2

## RES 1210 430R 5%
designator C?, comment 430R
430R 5% 500mW 1210 Thick Film Resistor; Manufacturer: FOJAN; Manufacturer Part Number: FRC1210J431 TS; Voltage Rating: 200V; Supplier: LCSC; Supplier Part Number: C2960844; Resistance: 430R; Tolerance: 5%; Power: 500mW
footprint RES SMD 1210
pins: 1, 2

## RES 1210 432R 1%
designator C?, comment 432R
432R 1% 500mW 1210 Thick Film Resistor; Manufacturer: FOJAN; Manufacturer Part Number: FRC1210F4320TS; Voltage Rating: 200V; Supplier: LCSC; Supplier Part Number: C42372190; Resistance: 432R; Tolerance: 1%; Power: 500mW
footprint RES SMD 1210
pins: 1, 2

## RES 1210 470k 1%
designator C?, comment 470k
470kR 1% 500mW 1210 Thick Film Resistor; Manufacturer: FOJAN; Manufacturer Part Number: FRC1210F4703TS; Voltage Rating: 200V; Supplier: LCSC; Supplier Part Number: C3000657; Resistance: 470k; Tolerance: 1%; Power: 500mW
footprint RES SMD 1210
pins: 1, 2

## RES 1210 470k 5%
designator C?, comment 470k
470kR 5% 500mW 1210 Thick Film Resistor; Manufacturer: FOJAN; Manufacturer Part Number: FRC1210J474 TS; Voltage Rating: 200V; Supplier: LCSC; Supplier Part Number: C2960904; Resistance: 470k; Tolerance: 5%; Power: 500mW
footprint RES SMD 1210
pins: 1, 2

## RES 1210 470mR 1%
designator C?, comment 470mR
470mR 1% 500mW 1210 Thick Film Resistor; Manufacturer: FOJAN; Manufacturer Part Number: FRL1210FR470TS; Voltage Rating: 500V; Supplier: LCSC; Supplier Part Number: C2934318; Resistance: 470mR; Tolerance: 1%; Power: 500mW
footprint RES SMD 1210
pins: 1, 2

## RES 1210 470mR 5%
designator C?, comment 470mR
470mR 5% 500mW 1210 Thick Film Resistor; Manufacturer: FOJAN; Manufacturer Part Number: FRL1210JR470TS; Voltage Rating: 500V; Supplier: LCSC; Supplier Part Number: C2960858; Resistance: 470mR; Tolerance: 5%; Power: 500mW
footprint RES SMD 1210
pins: 1, 2

## RES 1210 470R 1%
designator C?, comment 470R
470R 1% 500mW 1210 Thick Film Resistor; Manufacturer: FOJAN; Manufacturer Part Number: FRC1210F4700TS; Voltage Rating: 200V; Supplier: LCSC; Supplier Part Number: C3013280; Resistance: 470R; Tolerance: 1%; Power: 500mW
footprint RES SMD 1210
pins: 1, 2

## RES 1210 470R 5%
designator C?, comment 470R
470R 5% 500mW 1210 Thick Film Resistor; Manufacturer: FOJAN; Manufacturer Part Number: FRC1210J471 TS; Voltage Rating: 200V; Supplier: LCSC; Supplier Part Number: C2933866; Resistance: 470R; Tolerance: 5%; Power: 500mW
footprint RES SMD 1210
pins: 1, 2

## RES 1210 499k 1%
designator C?, comment 499k
499kR 1% 500mW 1210 Thick Film Resistor; Manufacturer: FOJAN; Manufacturer Part Number: FRC1210F4993TS; Voltage Rating: 200V; Supplier: LCSC; Supplier Part Number: C3000756; Resistance: 499k; Tolerance: 1%; Power: 500mW
footprint RES SMD 1210
pins: 1, 2

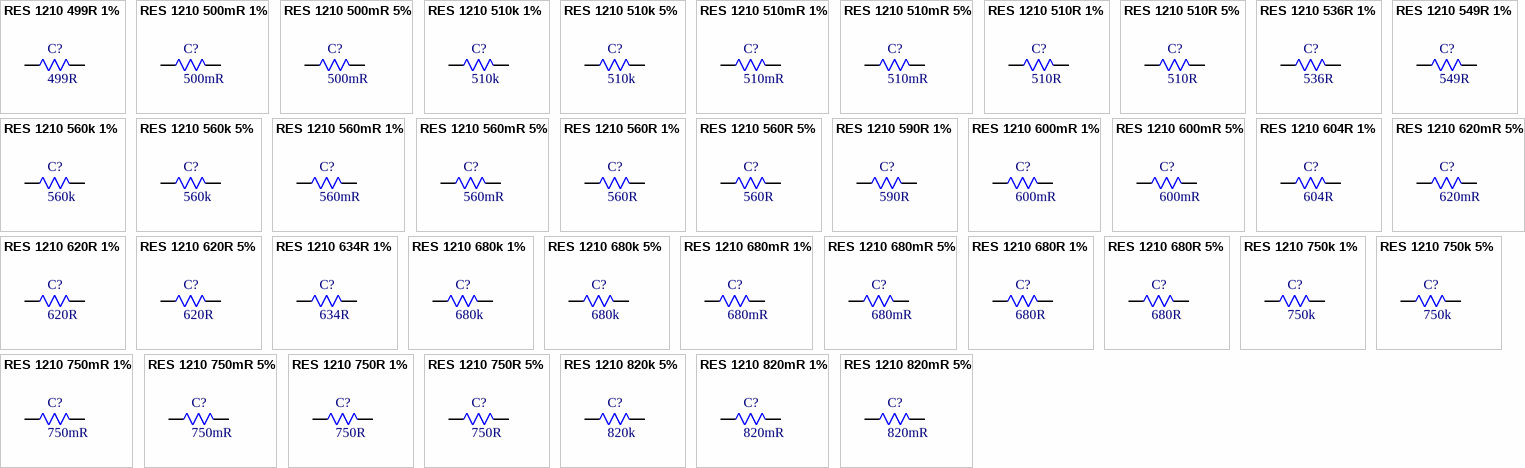
[diagram p91: symbols RES 1210 499R 1% to RES 1210 820mR 5%]

## RES 1210 499R 1%
designator C?, comment 499R
499R 1% 500mW 1210 Thick Film Resistor; Manufacturer: FOJAN; Manufacturer Part Number: FRC1210F4990TS; Voltage Rating: 200V; Supplier: LCSC; Supplier Part Number: C5126184; Resistance: 499R; Tolerance: 1%; Power: 500mW
footprint RES SMD 1210
pins: 1, 2

## RES 1210 500mR 1%
designator C?, comment 500mR
500mR 1% 500mW 1210 Thick Film Resistor; Manufacturer: FOJAN; Manufacturer Part Number: FRL1210FR500TS; Voltage Rating: 500V; Supplier: LCSC; Supplier Part Number: C2960668; Resistance: 500mR; Tolerance: 1%; Power: 500mW
footprint RES SMD 1210
pins: 1, 2

## RES 1210 500mR 5%
designator C?, comment 500mR
500mR 5% 500mW 1210 Thick Film Resistor; Manufacturer: FOJAN; Manufacturer Part Number: FRL1210JR500TS; Voltage Rating: 500V; Supplier: LCSC; Supplier Part Number: C2934335; Resistance: 500mR; Tolerance: 5%; Power: 500mW
footprint RES SMD 1210
pins: 1, 2

## RES 1210 510k 1%
designator C?, comment 510k
510kR 1% 500mW 1210 Thick Film Resistor; Manufacturer: FOJAN; Manufacturer Part Number: FRC1210F5103TS; Voltage Rating: 200V; Supplier: LCSC; Supplier Part Number: C3000757; Resistance: 510k; Tolerance: 1%; Power: 500mW
footprint RES SMD 1210
pins: 1, 2

## RES 1210 510k 5%
designator C?, comment 510k
510kR 5% 500mW 1210 Thick Film Resistor; Manufacturer: FOJAN; Manufacturer Part Number: FRC1210J514 TS; Voltage Rating: 200V; Supplier: LCSC; Supplier Part Number: C2960696; Resistance: 510k; Tolerance: 5%; Power: 500mW
footprint RES SMD 1210
pins: 1, 2

## RES 1210 510mR 1%
designator C?, comment 510mR
510mR 1% 500mW 1210 Thick Film Resistor; Manufacturer: FOJAN; Manufacturer Part Number: FRL1210FR510TS; Voltage Rating: 500V; Supplier: LCSC; Supplier Part Number: C2934319; Resistance: 510mR; Tolerance: 1%; Power: 500mW
footprint RES SMD 1210
pins: 1, 2

## RES 1210 510mR 5%
designator C?, comment 510mR
510mR 5% 500mW 1210 Thick Film Resistor; Manufacturer: FOJAN; Manufacturer Part Number: FRL1210JR510TS; Voltage Rating: 500V; Supplier: LCSC; Supplier Part Number: C2934336; Resistance: 510mR; Tolerance: 5%; Power: 500mW
footprint RES SMD 1210
pins: 1, 2

## RES 1210 510R 1%
designator C?, comment 510R
510R 1% 500mW 1210 Thick Film Resistor; Manufacturer: FOJAN; Manufacturer Part Number: FRC1210F5100TS; Voltage Rating: 200V; Supplier: LCSC; Supplier Part Number: C2999574; Resistance: 510R; Tolerance: 1%; Power: 500mW
footprint RES SMD 1210
pins: 1, 2

## RES 1210 510R 5%
designator C?, comment 510R
510R 5% 500mW 1210 Thick Film Resistor; Manufacturer: FOJAN; Manufacturer Part Number: FRC1210J511TS; Voltage Rating: 200V; Supplier: LCSC; Supplier Part Number: C3000780; Resistance: 510R; Tolerance: 5%; Power: 500mW
footprint RES SMD 1210
pins: 1, 2

## RES 1210 536R 1%
designator C?, comment 536R
536R 500mW 200V Thick Film Resistor 1% 1210 Chip Resistor - Surface Mount RoHS; Manufacturer: FOJAN; Manufacturer Part Number: FRC1210F5360TS; Supplier: LCSC; Supplier Part Number: C51048191; Resistance: 536R; Tolerance: 1%; Voltage Rating: 200V; Power: 500mW
footprint RES SMD 1210
pins: 1, 2

## RES 1210 549R 1%
designator C?, comment 549R
549R 500mW 200V Thick Film Resistor 100ppm/â„ƒ 1% 1210 Chip Resistor - Surface Mount RoHS; Manufacturer: FOJAN; Manufacturer Part Number: FRC1210F5490TS; Supplier: LCSC; Supplier Part Number: C48533707; Resistance: 549R; Tolerance: 1%; Voltage Rating: 200V; Power: 500mW
footprint RES SMD 1210
pins: 1, 2

## RES 1210 560k 1%
designator C?, comment 560k
560kR 1% 500mW 1210 Thick Film Resistor; Manufacturer: FOJAN; Manufacturer Part Number: FRC1210F5603TS; Voltage Rating: 200V; Supplier: LCSC; Supplier Part Number: C3013281; Resistance: 560k; Tolerance: 1%; Power: 500mW
footprint RES SMD 1210
pins: 1, 2

## RES 1210 560k 5%
designator C?, comment 560k
560kR 5% 500mW 1210 Thick Film Resistor; Manufacturer: FOJAN; Manufacturer Part Number: FRC1210J564 TS; Voltage Rating: 200V; Supplier: LCSC; Supplier Part Number: C2933869; Resistance: 560k; Tolerance: 5%; Power: 500mW
footprint RES SMD 1210
pins: 1, 2

## RES 1210 560mR 1%
designator C?, comment 560mR
560mR 1% 500mW 1210 Thick Film Resistor; Manufacturer: FOJAN; Manufacturer Part Number: FRL1210FR560TS; Voltage Rating: 500V; Supplier: LCSC; Supplier Part Number: C2934320; Resistance: 560mR; Tolerance: 1%; Power: 500mW
footprint RES SMD 1210
pins: 1, 2

## RES 1210 560mR 5%
designator C?, comment 560mR
560mR 5% 500mW 1210 Thick Film Resistor; Manufacturer: FOJAN; Manufacturer Part Number: FRL1210JR560TS; Voltage Rating: 500V; Supplier: LCSC; Supplier Part Number: C2934337; Resistance: 560mR; Tolerance: 5%; Power: 500mW
footprint RES SMD 1210
pins: 1, 2

## RES 1210 560R 1%
designator C?, comment 560R
560R 1% 500mW 1210 Thick Film Resistor; Manufacturer: FOJAN; Manufacturer Part Number: FRC1210F5600TS; Voltage Rating: 200V; Supplier: LCSC; Supplier Part Number: C3000758; Resistance: 560R; Tolerance: 1%; Power: 500mW
footprint RES SMD 1210
pins: 1, 2

## RES 1210 560R 5%
designator C?, comment 560R
560R 5% 500mW 1210 Thick Film Resistor; Manufacturer: FOJAN; Manufacturer Part Number: FRC1210J561 TS; Voltage Rating: 200V; Supplier: LCSC; Supplier Part Number: C2933868; Resistance: 560R; Tolerance: 5%; Power: 500mW
footprint RES SMD 1210
pins: 1, 2

## RES 1210 590R 1%
designator C?, comment 590R
590R 1% 500mW 1210 Thick Film Resistor; Manufacturer: FOJAN; Manufacturer Part Number: FRC1210F5900TS; Voltage Rating: 200V; Supplier: LCSC; Supplier Part Number: C5204029; Resistance: 590R; Tolerance: 1%; Power: 500mW
footprint RES SMD 1210
pins: 1, 2

## RES 1210 600mR 1%
designator C?, comment 600mR
500mW 600mR Thick Film Resistor 200ppm/â„ƒ 1% 1210 Chip Resistor - Surface Mount RoHS; Manufacturer: FOJAN; Manufacturer Part Number: FRL1210FR600TS; Supplier: LCSC; Supplier Part Number: C7467818; Resistance: 600mR; Tolerance: 1%; Power: 500mW
footprint RES SMD 1210
pins: 1, 2

## RES 1210 600mR 5%
designator C?, comment 600mR
600mR 5% 500mW 1210 Thick Film Resistor; Manufacturer: FOJAN; Manufacturer Part Number: FRL1210JR600TS; Voltage Rating: 500V; Supplier: LCSC; Supplier Part Number: C2934338; Resistance: 600mR; Tolerance: 5%; Power: 500mW
footprint RES SMD 1210
pins: 1, 2

## RES 1210 604R 1%
designator C?, comment 604R
604R 1% 500mW 1210 Thick Film Resistor; Manufacturer: FOJAN; Manufacturer Part Number: FRC1210F6040TS; Voltage Rating: 200V; Supplier: LCSC; Supplier Part Number: C5713341; Resistance: 604R; Tolerance: 1%; Power: 500mW
footprint RES SMD 1210
pins: 1, 2

## RES 1210 620mR 5%
designator C?, comment 620mR
620mR 5% 500mW 1210 Thick Film Resistor; Manufacturer: FOJAN; Manufacturer Part Number: FRL1210JR620TS; Voltage Rating: 500V; Supplier: LCSC; Supplier Part Number: C2934339; Resistance: 620mR; Tolerance: 5%; Power: 500mW
footprint RES SMD 1210
pins: 1, 2

## RES 1210 620R 1%
designator C?, comment 620R
620R 1% 500mW 1210 Thick Film Resistor; Manufacturer: FOJAN; Manufacturer Part Number: FRC1210F6200TS; Voltage Rating: 200V; Supplier: LCSC; Supplier Part Number: C3000545; Resistance: 620R; Tolerance: 1%; Power: 500mW
footprint RES SMD 1210
pins: 1, 2

## RES 1210 620R 5%
designator C?, comment 620R
620R 5% 500mW 1210 Thick Film Resistor; Manufacturer: FOJAN; Manufacturer Part Number: FRC1210J621 TS; Voltage Rating: 200V; Supplier: LCSC; Supplier Part Number: C2933871; Resistance: 620R; Tolerance: 5%; Power: 500mW
footprint RES SMD 1210
pins: 1, 2

## RES 1210 634R 1%
designator C?, comment 634R
634R 500mW 200V Thick Film Resistor 100ppm/â„ƒ 1% 1210 Chip Resistor - Surface Mount RoHS; Manufacturer: FOJAN; Manufacturer Part Number: FRC1210F6340TS; Supplier: LCSC; Supplier Part Number: C48533790; Resistance: 634R; Tolerance: 1%; Voltage Rating: 200V; Power: 500mW
footprint RES SMD 1210
pins: 1, 2

## RES 1210 680k 1%
designator C?, comment 680k
680kR 1% 500mW 1210 Thick Film Resistor; Manufacturer: FOJAN; Manufacturer Part Number: FRC1210F6803TS; Voltage Rating: 200V; Supplier: LCSC; Supplier Part Number: C3013283; Resistance: 680k; Tolerance: 1%; Power: 500mW
footprint RES SMD 1210
pins: 1, 2

## RES 1210 680k 5%
designator C?, comment 680k
680kR 5% 500mW 1210 Thick Film Resistor; Manufacturer: FOJAN; Manufacturer Part Number: FRC1210J684 TS; Voltage Rating: 200V; Supplier: LCSC; Supplier Part Number: C3013289; Resistance: 680k; Tolerance: 5%; Power: 500mW
footprint RES SMD 1210
pins: 1, 2

## RES 1210 680mR 1%
designator C?, comment 680mR
680mR 1% 500mW 1210 Thick Film Resistor; Manufacturer: FOJAN; Manufacturer Part Number: FRL1210FR680TS; Voltage Rating: 500V; Supplier: LCSC; Supplier Part Number: C2960669; Resistance: 680mR; Tolerance: 1%; Power: 500mW
footprint RES SMD 1210
pins: 1, 2

## RES 1210 680mR 5%
designator C?, comment 680mR
680mR 5% 500mW 1210 Thick Film Resistor; Manufacturer: FOJAN; Manufacturer Part Number: FRL1210JR680TS; Voltage Rating: 500V; Supplier: LCSC; Supplier Part Number: C3000705; Resistance: 680mR; Tolerance: 5%; Power: 500mW
footprint RES SMD 1210
pins: 1, 2

## RES 1210 680R 1%
designator C?, comment 680R
500mW 680R 200V Thick Film Resistor 100ppm/â„ƒ 1% 1210 Chip Resistor - Surface Mount RoHS; Manufacturer: FOJAN; Manufacturer Part Number: FRQ1210F6800TS; Supplier: LCSC; Supplier Part Number: C5126155; Resistance: 680R; Tolerance: 1%; Voltage Rating: 200V; Power: 500mW
footprint RES SMD 1210
pins: 1, 2

## RES 1210 680R 5%
designator C?, comment 680R
680R 5% 500mW 1210 Thick Film Resistor; Manufacturer: FOJAN; Manufacturer Part Number: FRC1210J681 TS; Voltage Rating: 200V; Supplier: LCSC; Supplier Part Number: C2907553; Resistance: 680R; Tolerance: 5%; Power: 500mW
footprint RES SMD 1210
pins: 1, 2

## RES 1210 750k 1%
designator C?, comment 750k
500mW 750kR 200V Thick Film Resistor 100ppm/â„ƒ 1% 1210 Chip Resistor - Surface Mount RoHS; Manufacturer: FOJAN; Manufacturer Part Number: FRC1210F7503TS; Supplier: LCSC; Supplier Part Number: C48533779; Resistance: 750k; Tolerance: 1%; Voltage Rating: 200V; Power: 500mW
footprint RES SMD 1210
pins: 1, 2

## RES 1210 750k 5%
designator C?, comment 750k
750kR 5% 500mW 1210 Thick Film Resistor; Manufacturer: FOJAN; Manufacturer Part Number: FRC1210J754TS; Voltage Rating: 200V; Supplier: LCSC; Supplier Part Number: C3000634; Resistance: 750k; Tolerance: 5%; Power: 500mW
footprint RES SMD 1210
pins: 1, 2

## RES 1210 750mR 1%
designator C?, comment 750mR
750mR 1% 500mW 1210 Thick Film Resistor; Manufacturer: FOJAN; Manufacturer Part Number: FRL1210FR750TS; Voltage Rating: 500V; Supplier: LCSC; Supplier Part Number: C2934322; Resistance: 750mR; Tolerance: 1%; Power: 500mW
footprint RES SMD 1210
pins: 1, 2

## RES 1210 750mR 5%
designator C?, comment 750mR
750mR 5% 500mW 1210 Thick Film Resistor; Manufacturer: FOJAN; Manufacturer Part Number: FRL1210JR750TS; Voltage Rating: 500V; Supplier: LCSC; Supplier Part Number: C2974124; Resistance: 750mR; Tolerance: 5%; Power: 500mW
footprint RES SMD 1210
pins: 1, 2

## RES 1210 750R 1%
designator C?, comment 750R
750R 1% 500mW 1210 Thick Film Resistor; Manufacturer: FOJAN; Manufacturer Part Number: FRC1210F7500TS; Voltage Rating: 200V; Supplier: LCSC; Supplier Part Number: C2999576; Resistance: 750R; Tolerance: 1%; Power: 500mW
footprint RES SMD 1210
pins: 1, 2

## RES 1210 750R 5%
designator C?, comment 750R
750R 5% 500mW 1210 Thick Film Resistor; Manufacturer: FOJAN; Manufacturer Part Number: FRC1210J751TS; Voltage Rating: 200V; Supplier: LCSC; Supplier Part Number: C3000694; Resistance: 750R; Tolerance: 5%; Power: 500mW
footprint RES SMD 1210
pins: 1, 2

## RES 1210 820k 5%
designator C?, comment 820k
820kR 5% 500mW 1210 Thick Film Resistor; Manufacturer: FOJAN; Manufacturer Part Number: FRC1210J824TS; Voltage Rating: 200V; Supplier: LCSC; Supplier Part Number: C3000566; Resistance: 820k; Tolerance: 5%; Power: 500mW
footprint RES SMD 1210
pins: 1, 2